# EAGLE library part 74HCT6323A (library di_ic)
74HC/HCT6323A Programmable ripple counter with oscillator; 3-state http://www.nxp.com/acrobat_download/datasheets/74HC_HCT6323A_CNV_3.pdf
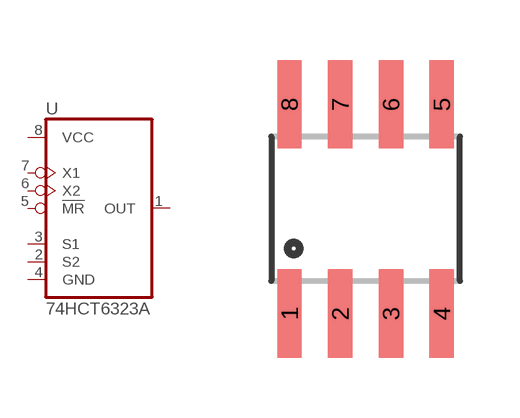
[diagram p2: symbol with the pads of SO08; footprint SO08]

Designator prefix -

## 74HCT6323A  [SO08]
1  OUT  out
2  S2
3  S1
4  GND  pwr
5  !MR  in
6  X2
7  X1
8  VCC  pwr

## Footprint SO08 (pad centres in mm)
Small Outline Package Fits JEDEC packages (narrow SOIC-8)
smd 0.61 x 2.21: 1 -1.905,-2.616; 2 -0.635,-2.616; 3 0.635,-2.616; 4 1.905,-2.616; 5 1.905,2.616; 6 0.635,2.616; 7 -0.635,2.616; 8 -1.905,2.616